# Altium schematic symbol library Sektor_Resistors.SchLib: 1 symbol
Pins are listed as number, name and electrical type; pins without a type are passive.

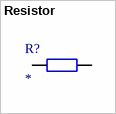
[diagram p0: symbol Resistor]

## Resistor
designator R?
footprint Res_0603
footprint Res_0805
footprint RES_1206
pins: 1, 2